# Altium footprint library 电感.PcbLib: 9 footprints
Each footprint in its own frame and in the unit in brackets; x right, y up, seen from the top. Pads: shape width x height; smd on the part's side, far side on the other; paste and mask are expansions set on the pad; w line width, h text height; cw(c..) or ccw(c..) is an arc to the next point about the centre after c.
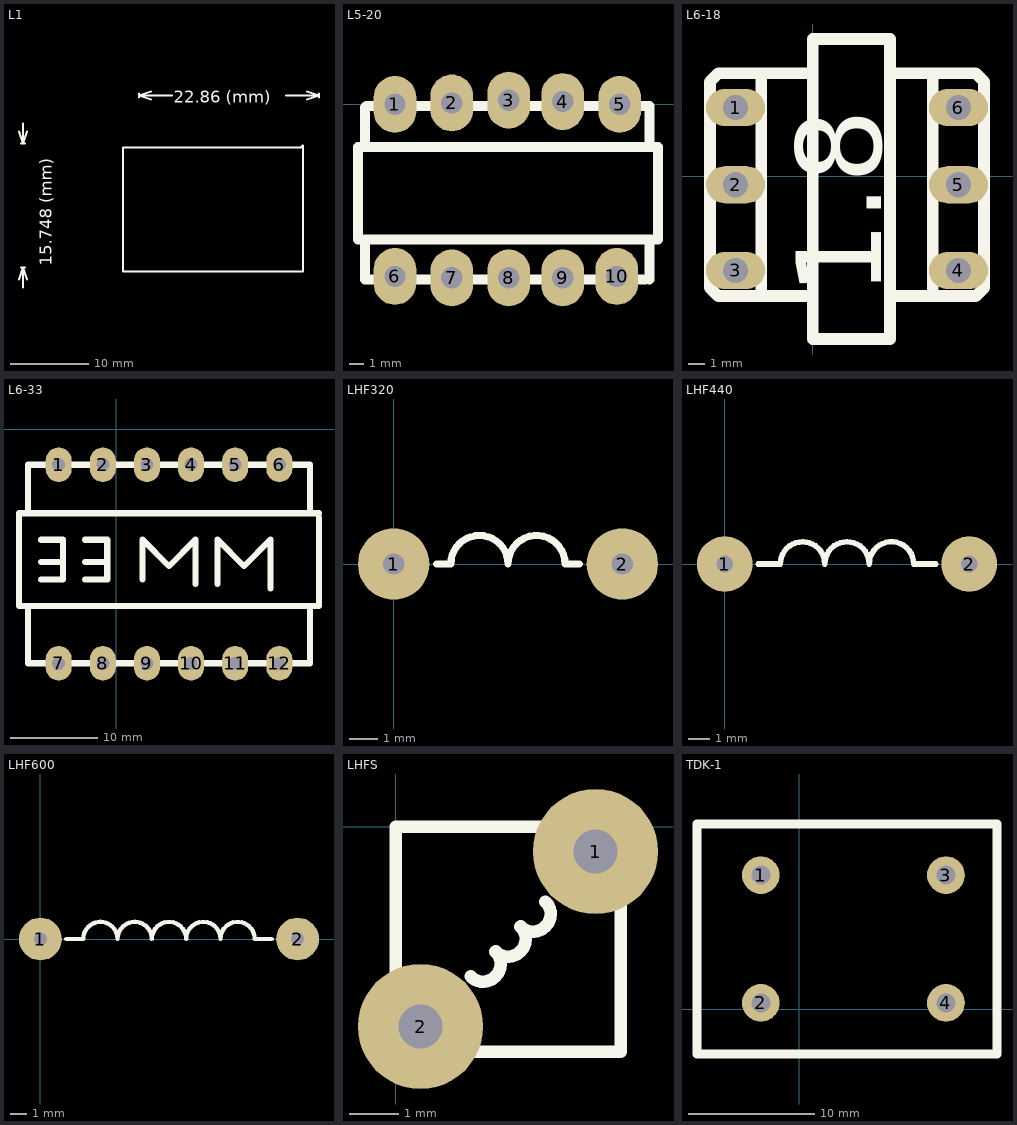
[diagram p0: the footprints below, top view; thin cyan lines are the x and y axes]

## L1 [mm]
TopOverlay:
  lines w0.254: 164.592,1075.436 165.1,1076.96 ; 164.592,1094.232 165.1,1092.708 ; 164.846,1076.96 165.354,1076.96 ; 164.846,1092.708 165.354,1092.708 ; 165.1,1074.42 165.1,1076.96 ; 165.1,1095.248 165.1,1092.708 ; 165.608,1075.436 165.1,1076.96 ; 165.608,1094.232 165.1,1092.708 ; 179.832,1098.55 179.832,1099.058 ; 181.356,1098.296 179.832,1098.804 ; 181.356,1099.312 179.832,1098.804 ; 184,1098.804 179.832,1098.804 ; 198.524,1098.804 202.692,1098.804 ; 201.168,1098.296 202.692,1098.804 ; 201.168,1099.312 202.692,1098.804 ; 202.692,1098.55 202.692,1099.058 ; 177.8,1076.452 200.66,1076.452 200.66,1092.454 200.406,1092.2 177.8,1092.2 177.8,1076.452
  text "22.86 (mm)" at 184.254,1097.89 h1.52
  text "15.748 (mm)" at 168.757,1077.191 h1.52

## L5-20 [mm]
pads (10):
  oval 3x4 hole 1.5: 1(-23.2,0) 2(-19.2,0.1) 3(-15.2,0.3) 4(-11.4,0.2) 5(-7.4,0) 6(-23.2,-12.1) 7(-19.2,-12.2) 8(-15.2,-12.2) 9(-11.4,-12.2) 10(-7.6,-12.1)
TopOverlay:
  lines w0.7: -25.3,-9.5 -25.3,-12.3 -5.6,-12.3 ; -25.3,-3 -25.3,-0.2 -25.2,-0.1 -5.3,-0.1 -5.3,-3 ; -5.3,-12.3 -5.3,-9.5 ; -25.8,-9.5 -25.8,-3 ; -25.8,-9.5 -4.7,-9.5 ; -25.8,-9.5 -25.8,-3 ; -25.8,-3 -4.7,-3 ; -4.7,-9.5 -4.7,-3 ; -4.7,-9.5 -4.7,-3

## L6-18 [mm]
pads (6):
  oval 3.5x2.2 hole 1.5: 1(-4.572,4.064) 2(-4.572,-0.508) 3(-4.572,-5.588) 4(8.636,-5.588) 5(8.636,-0.508) 6(8.636,4.064)
TopOverlay:
  lines w0.7: -5.08,-7.112 0,-7.112 ; -4.572,-7.112 -5.588,-7.112 -6.096,-6.604 -6.096,5.588 -5.588,6.096 0,6.096 ; -3.048,-7.112 -3.048,6.096 ; 4.572,-7.112 9.144,-7.112 9.652,-7.112 10.16,-6.604 10.16,5.588 9.652,6.096 9.144,6.096 4.572,6.096 ; 7.112,-7.112 7.112,6.096 ; 0,-9.652 0,8.128 4.572,8.128 4.572,-9.652 0,-9.652
  text "1.8" at 4.064,-7.112 h5.08

## L6-33 [mm]
pads (12):
  oval 3x4 hole 1.5: 1(-6.604,-4.064) 2(-1.524,-4.064) 3(3.556,-4.064) 4(8.636,-4.064) 5(13.716,-4.064) 6(18.796,-4.064) 7(-6.604,-26.924) 8(-1.524,-26.924) 9(3.556,-26.924) 10(8.636,-26.924) 11(13.716,-26.924) 12(18.796,-26.924)
TopOverlay:
  lines w0.7: -10.16,-20.32 -10.16,-26.924 22.352,-26.924 22.352,-20.32 ; -10.16,-9.652 -10.16,-4.064 22.352,-4.064 ; -8.636,-17.272 -8.128,-17.272 -6.096,-17.272 -6.096,-15.24 ; -8.636,-15.24 -6.096,-15.24 ; -8.636,-12.7 -6.096,-12.7 -6.096,-15.24 ; -3.556,-17.272 -1.016,-17.272 -1.016,-12.7 -3.556,-12.7 ; -3.556,-15.24 -1.016,-15.24 ; 3.048,-17.272 3.048,-12.7 6.096,-15.748 9.144,-12.7 9.144,-17.78 ; 11.684,-17.78 11.684,-12.7 14.732,-15.748 17.78,-12.7 17.78,-18.288 ; 23.368,-10.16 23.368,-20.32 -11.176,-20.32 -11.176,-9.652 23.368,-9.652 ; 22.352,-4.064 22.352,-9.652 22.352,-4.064

## LHF320 [mil]
pads (2):
  round 100 hole 30: 1(0,0) 2(320,0)
TopOverlay:
  lines w10: 60,0 80,0 cw(c120,0) 120,40 cw(c120,0) 160,0 cw(c200,0) 240,0 260,0

## LHF440 [mil]
pads (2):
  round 100 hole 30: 1(0,0) 2(440,0)
TopOverlay:
  lines w10: 60,0 100,0 cw(c140,0) 140,40 cw(c140,0) 180,0 cw(c220,0) 220,40 cw(c220,0) 260,0 cw(c300,0) 340,0 380,0

## LHF600 [mil]
pads (2):
  round 100 hole 30: 1(0,0) 2(600,0)
TopOverlay:
  lines w10: 60,0 100,0 cw(c140,0) 140,40 cw(c140,0) 180,0 cw(c220,0) 220,40 cw(c220,0) 260,0 cw(c300,0) 340,0 cw(c380,0) 420,0 cw(c460,0) 500,0 540,0

## LHFS [mil]
pads (2):
  round 100 hole 35: 1(160,-20) 2(20,-160)
TopOverlay:
  lines w10: 60,-120 ccw(c70,-110) 80,-100 ccw(c90,-90) 100,-80 ccw(c110,-70) 120,-60 ; 0,-180 0,0 180,0 180,-180 0,-180

## TDK-1 [mm]
pads (4):
  round 3 hole 1.5: 1(-3.048,10.668) 2(-3.048,0.508) 3(11.684,10.668) 4(11.684,0.508)
TopOverlay:
  lines w0.7: -8.128,-3.556 15.748,-3.556 15.748,14.732 -8.128,14.732 -8.128,-3.556